# Altium footprint library Motorized_Blinds_PcbLib.PcbLib: 34 footprints (part 3 of 3)
Each footprint in its own frame and in the unit in brackets; x right, y up, seen from the top. Pads: shape width x height; smd on the part's side, far side on the other; paste and mask are expansions set on the pad; w line width, h text height; cw(c..) or ccw(c..) is an arc to the next point about the centre after c.
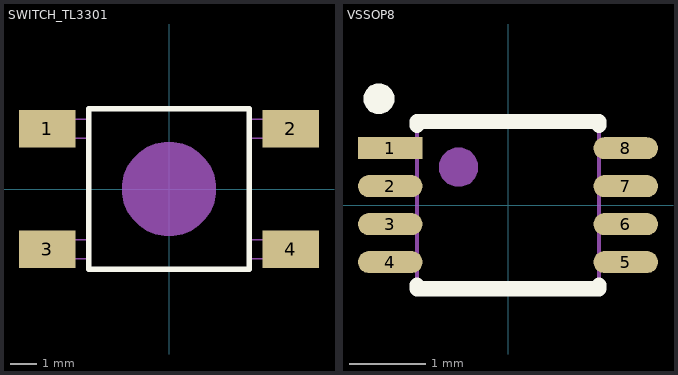
[diagram p2: the footprints below, top view; thin cyan lines are the x and y axes]

## SWITCH_TL3301 [mm]
pads (4):
  rect 2.1x1.4 smd: 1(-4.55,2.25) 2(4.55,2.25) 3(-4.55,-2.25) 4(4.55,-2.25)
Top Overlay:
  lines w0.2: -3,-3 -3,3 3,3 3,-3 -3,-3
Mechanical 3:
  region: 0,-1.75 -0.172,-1.75 -0.51,-1.683 -0.829,-1.551 -1.116,-1.359 -1.359,-1.116 -1.551,-0.829 -1.683,-0.51 -1.75,-0.172 -1.75,0.172 -1.683,0.51 -1.551,0.829 -1.359,1.116 -1.116,1.359 -0.829,1.551 -0.51,1.683 -0.172,1.75 0,1.75 0.172,1.75 0.51,1.683 0.829,1.551 1.116,1.359 1.359,1.116 1.551,0.829 1.683,0.51 1.75,0.172 1.75,-0.172 1.683,-0.51 1.551,-0.829 1.359,-1.116 1.116,-1.359 0.829,-1.551 0.51,-1.683 0.172,-1.75
  lines w0.051: -5,-2.6 -5,-1.9 -3,-1.9 -3,-2.6 -5,-2.6 ; -5,1.9 -5,2.6 -3,2.6 -3,1.9 -5,1.9 ; -3,-3 -3,3 3,3 3,-3 -3,-3 ; 3,-2.6 3,-1.9 5,-1.9 5,-2.6 3,-2.6 ; 3,1.9 3,2.6 5,2.6 5,1.9 3,1.9
  text ".Designator" at -1.3,-0.8 h0.84
3D body "TL3301AFxxxxG.stp": height 5.11, standoff 0.01, extent -5,-3 5,3

## VSSOP8 [mm]
height 0.9
pads (8):
  rect 0.85x0.29 smd: 1(-1.55,0.75)
  oval 0.85x0.29 smd: 2(-1.55,0.25) 3(-1.55,-0.25) 4(-1.55,-0.75) 5(1.55,-0.75) 6(1.55,-0.25) 7(1.55,0.25) 8(1.55,0.75)
Top Overlay:
  region: -1.7,1.2 -1.74,1.2 -1.813,1.23 -1.87,1.287 -1.9,1.36 -1.9,1.44 -1.87,1.513 -1.813,1.57 -1.74,1.6 -1.7,1.6 -1.66,1.6 -1.587,1.57 -1.53,1.513 -1.5,1.44 -1.5,1.36 -1.53,1.287 -1.587,1.23 -1.66,1.2
  lines w0.2: -1.2,-1.05 -1.2,-1.1 1.2,-1.1 1.2,-1.05 ; -1.2,1.05 -1.2,1.1 1.2,1.1 1.2,1.05
Mechanical 3:
  region: -0.904,0.5 -0.904,0.551 -0.865,0.644 -0.794,0.715 -0.701,0.754 -0.599,0.754 -0.506,0.715 -0.435,0.644 -0.396,0.551 -0.396,0.5 -0.396,0.449 -0.435,0.356 -0.506,0.285 -0.599,0.246 -0.701,0.246 -0.794,0.285 -0.865,0.356 -0.904,0.449
  lines w0.051: -1.2,-1.05 -1.2,1.05 1.2,1.05 1.2,-1.05 -1.2,-1.05
  text ".Designator" at 0.5,-1.2 h0.84
3D body "User Library-SOP50P310X90-8N[8US8_VSSOP_DCU_MO-187CA].STEP": height 0.91, standoff 0.01, extent -1.6,-1.05 1.6,1.05